# Altium schematic symbol library TSIC_306_SOP-8.SchLib: 1 symbol
Pins are listed as number, name and electrical type; pins without a type are passive.

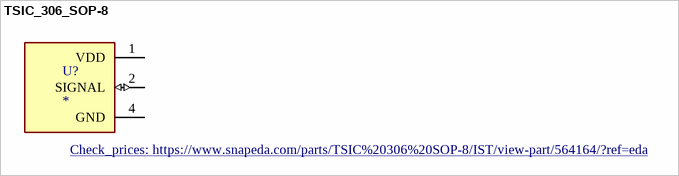
[diagram p0: symbol TSIC_306_SOP-8]

## TSIC_306_SOP-8
designator U?
SENSOR, TEMP, DIGITAL, 0.3DEG C, SOP-8; SVHC: No SVHC (20-Jun-2013); MF: IST; MP: TSIC 306 SOP-8; Value: *; Package: SOP-8 IST; SnapEDA_Link: https://www.snapeda.com/parts/TSIC%20306%20SOP-8/IST/view-part/564164/?ref=snap; Price: None; Availability: Unavailable; Check_prices: https://www.snapeda.com/parts/TSIC%20306%20SOP-8/IST/view-part/564164/?ref=eda
footprint SOIC127P602X173-8N
pins: 1 VDD (power), 2 SIGNAL (io), 4 GND (power)